# Altium schematic symbol library UCC27710.Schlib: 1 symbol
Pins are listed as number, name and electrical type; pins without a type are passive.

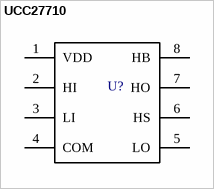
[diagram p0: symbol UCC27710]

## UCC27710
designator U?  (value not drawn)
pins: 1 VDD, 2 HI, 3 LI, 4 COM, 5 LO, 6 HS, 7 HO, 8 HB